# Altium footprint library XT60Connector.PcbLib: 1 footprints
Each footprint in its own frame and in the unit in brackets; x right, y up, seen from the top. Pads: shape width x height; smd on the part's side, far side on the other; paste and mask are expansions set on the pad; w line width, h text height; cw(c..) or ccw(c..) is an arc to the next point about the centre after c.
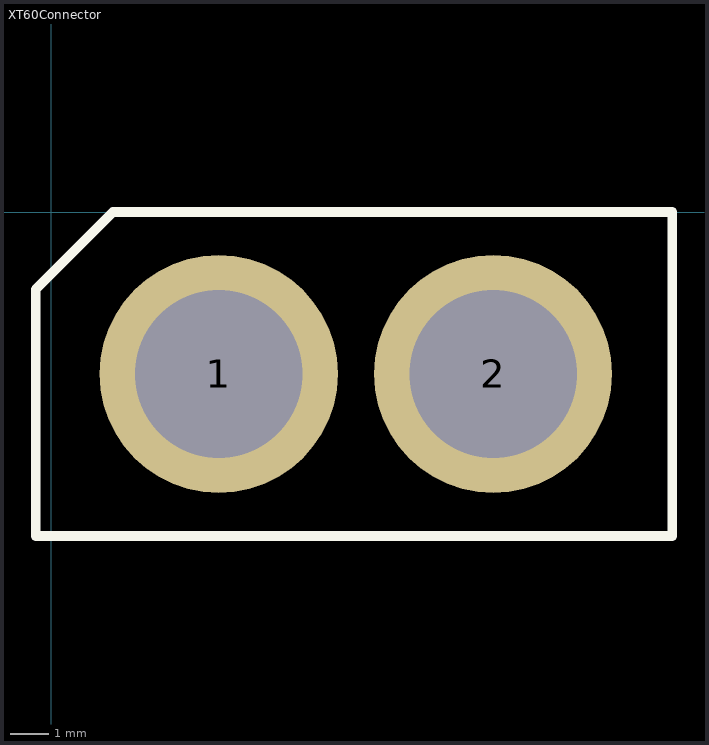
[diagram p0: the footprint, top view; thin cyan lines are the x and y axes]

## XT60Connector [mm]
pads (2):
  round 6.25 hole 4.4: 1(4.4,-4.25) 2(11.6,-4.25)
Top Overlay:
  lines w0.254: 7.75,0 1.624,0 ; 1.624,0 16.3,0 16.3,-8.5 -0.4,-8.5 -0.4,-2.024 1.624,0
3D body "XT-60_MalePin_FemaleSocket.STEP": height 16.25, standoff -4.95, extent -0.25,-8.3 16.05,-0.1